# Altium schematic symbol library S2D.SchLib: 1 symbol
Pins are listed as number, name and electrical type; pins without a type are passive.

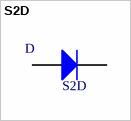
[diagram p0: symbol S2D]

## S2D
designator D  value S2D  (hidden comment: *)
Manufacturer: FAIRCHILD SEMICONDUCTOR; Voltage: 200V; Current: 2A; Farnell Code: 1020526; Manufacturer Code: S2D; Unit Price: 0,112 €
footprint SMB
pins: 1 K, 2 A